# Altium footprint library Markers.PcbLib: 1 footprints
Each footprint in its own frame and in the unit in brackets; x right, y up, seen from the top. Pads: shape width x height; smd on the part's side, far side on the other; paste and mask are expansions set on the pad; w line width, h text height; cw(c..) or ccw(c..) is an arc to the next point about the centre after c.
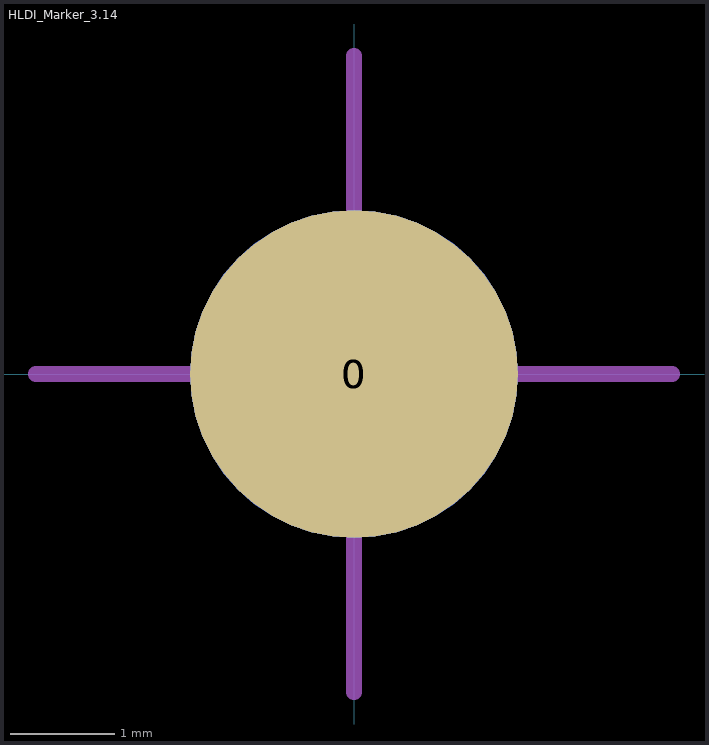
[diagram p0: the footprint, top view; thin cyan lines are the x and y axes]

## HLDI_Marker_3.14 [mm]
pads (4):
  round 3.14 on Top Overlay paste+0 mask+0: 0(0,0)
  round 3.14 on Bottom Overlay paste+0 mask+0: 0(0,0)
  round 3.14 smd paste+0 mask+0: 0(0,0)
  round 3.14 smd far side paste+0 mask+0: 0(0,0)
Mechanical 1:
  lines w0.15: -3.048,0 0,0 ; 0,-3.048 0,0 ; 0,3.048 0,0 ; 3.048,0 0,0